# Altium schematic symbol library NTS2101PT1G.SCHLIB: 1 symbol
Pins are listed as number, name and electrical type; pins without a type are passive.

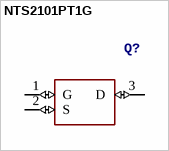
[diagram p0: symbol NTS2101PT1G]

## NTS2101PT1G
designator Q?, comment Power MOSFET   Source:  Datasheet  (value not drawn)
Manufacturer_Name: ON Semiconductor; Manufacturer_Part_Number: NTS2101PT1G; Allied_Number: 70341398; RS_Part_Number: 1631139; RS_Price-Stock: http://uk.rs-online.com/web/p/products/1631139; Allied_Price-Stock: http://www.alliedelec.com/on-semiconductor-nts2101pt1g/70341398/; Mouser_Part_Number: 863-NTS2101PT1G; Mouser_Price-Stock: https://www.mouser.com/Search/Refine.aspx?Keyword=863-NTS2101PT1G; Height: 1mm
footprint SOT65P220X100-3N
pins: 1 G (io), 2 S (io), 3 D (io)